# Altium schematic symbol library Antenna.SchLib: 1 symbol
Pins are listed as number, name and electrical type; pins without a type are passive.

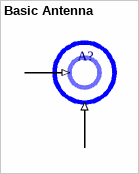
[diagram p0: symbol Basic Antenna]

## Basic Antenna
designator A?
footprint CON-SMA-EDGE062 (Connector, SMA Female Edge Mount for 0.062" Thick Board, 5-Lead, Body Dia. 7.9mm)
pins: G Ground (in), S Signal (in)